# Altium footprint library WS-TASV_PT540_3.7X3.7_SWITCH.PcbLib: 1 footprints
Each footprint in its own frame and in the unit in brackets; x right, y up, seen from the top. Pads: shape width x height; smd on the part's side, far side on the other; paste and mask are expansions set on the pad; w line width, h text height; cw(c..) or ccw(c..) is an arc to the next point about the centre after c.
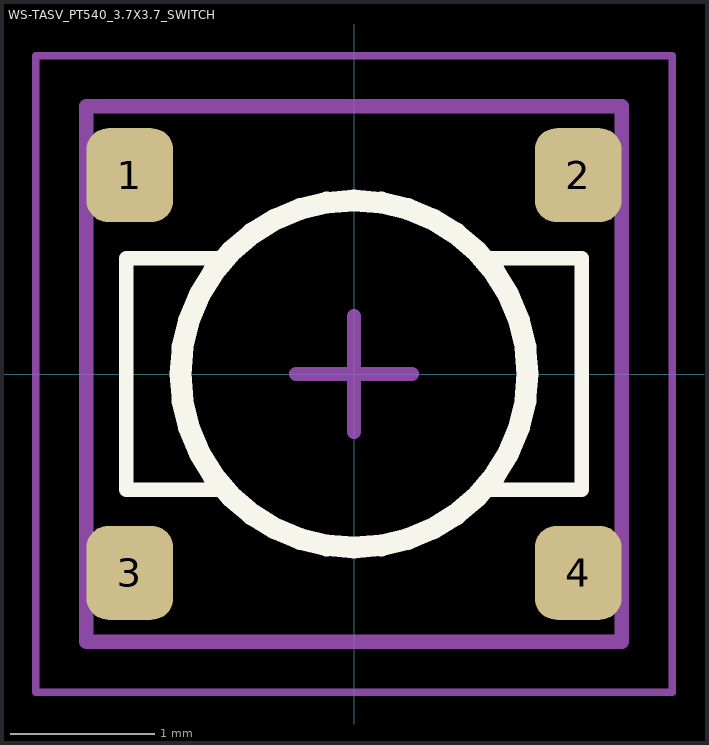
[diagram p0: the footprint, top view; thin cyan lines are the x and y axes]

## WS-TASV_PT540_3.7X3.7_SWITCH [mm]
pads (4):
  rrect50% 0.6x0.65 smd mask+0.05: 1(-1.55,1.375) 2(1.55,1.375) 3(-1.55,-1.375) 4(1.55,-1.375)
Top Overlay:
  circle w0.15: c0,0 r1.2
  lines w0.1: -0.925,-0.8 -1.575,-0.8 -1.575,0.8 -0.875,0.8 ; 0.875,-0.8 1.575,-0.8 1.575,0.8 0.925,0.8
Top Assembly:
  lines w0.1: -0.4,0 0.4,0 ; 0,-0.4 0,0.4 ; -1.85,-1.85 -1.85,1.85 1.85,1.85 1.85,-1.85 -1.85,-1.85
Top Courtyard:
  lines w0.05: -2.2,-2.2 -2.2,2.2 2.2,2.2 2.2,-2.2 -2.2,-2.2
3D body "Download_STP_430173003816 (rev1) v1.step": height 0.4, standoff 0, extent -1.85,-1.85 1.85,1.85